# EAGLE library part MCP23S08 (library MC23S008)
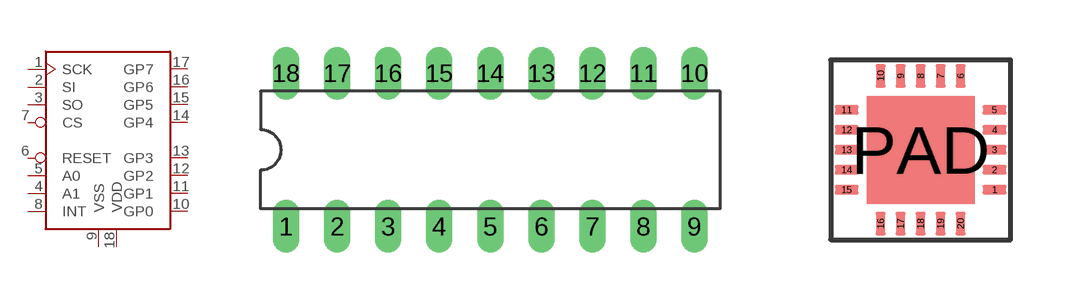
[diagram p0: symbol with the pads of DIL18; footprints DIL18, QFN20_4X4]

Designator prefix -

## MCP23S08DIP  [DIL18]
1  SCK
2  SI
3  SO
4  A1
5  A0
6  RESET
7  CS
8  INT
9  VSS
10  GP0
11  GP1
12  GP2
13  GP3
14  GP4
15  GP5
16  GP6
17  GP7
18  VDD

## MCP23S08QFN  [QFN20_4X4]
1  SO
2  A1
3  A0
4  RESET
5  CS
7  INT
9  GP0
10  GP1
11  GP2
12  GP3
13  GP4
14  GP5
15  GP6
16  GP7
17  VSS
18  VDD
19  SCK
20  SI

## Footprint DIL18 (pad centres in mm)
Dual In Line Package
drill 0.813 long: 1 -10.16,-3.81; 2 -7.62,-3.81; 3 -5.08,-3.81; 4 -2.54,-3.81; 5 0,-3.81; 6 2.54,-3.81; 7 5.08,-3.81; 8 7.62,-3.81; 9 10.16,-3.81; 10 10.16,3.81; 11 7.62,3.81; 12 5.08,3.81; 13 2.54,3.81; 14 0,3.81; 15 -2.54,3.81; 16 -5.08,3.81; 17 -7.62,3.81; 18 -10.16,3.81

## Footprint QFN20_4X4 (pad centres in mm)
smd 0.6 x 0.25: 1 1.81,-0.87; 2 1.81,-0.37; 3 1.81,0.13; 4 1.81,0.63; 5 1.81,1.13; 11 -1.89,1.13; 12 -1.89,0.63; 13 -1.89,0.13; 14 -1.89,-0.37; 15 -1.89,-0.87
smd 0.25 x 0.6: 6 0.96,1.98; 7 0.46,1.98; 8 -0.04,1.98; 9 -0.54,1.98; 10 -1.04,1.98; 16 -1.04,-1.72; 17 -0.54,-1.72; 18 -0.04,-1.72; 19 0.46,-1.72; 20 0.96,-1.72
smd 2.7 x 2.7: PAD -0.04,0.13